# Altium schematic symbol library LM25576QMH_NOPB.SchLib: 1 symbol
Pins are listed as number, name and electrical type; pins without a type are passive.

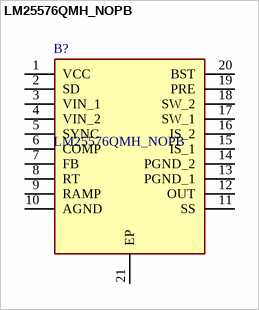
[diagram p0: symbol LM25576QMH_NOPB]

## LM25576QMH_NOPB
designator B?
Texas Instruments, LM25576QMH/NOPB Step-Down Switching Regulator 3A Adjustable, 1.225  40 V, 20-Pin HTSSOP; Geometry.Height: 1.1mm; Mouser Part Number: 926-LM25576QMH/NOPB; Mouser Price/Stock: https://www.mouser.co.uk/ProductDetail/Texas-Instruments/LM25576QMH-NOPB?qs=X1J7HmVL2ZGNdbTbFc93WQ%3D%3D; Manufacturer_Name: Texas Instruments; Manufacturer_Part_Number: LM25576QMH/NOPB; Datasheet Link: http://www.ti.com/lit/gpn/lm25576-q1
footprint SOP65P640X110-21N
pins: 1 VCC, 2 SD, 3 VIN_1, 4 VIN_2, 5 SYNC, 6 COMP, 7 FB, 8 RT, 9 RAMP, 10 AGND, 11 SS, 12 OUT, 13 PGND_1, 14 PGND_2, 15 IS_1, 16 IS_2, 17 SW_1, 18 SW_2, 19 PRE, 20 BST, 21 EP